# Altium integrated library Seeed-Connector.IntLib: 61 symbols
Pins are listed as number, name and electrical type; pins without a type are passive.

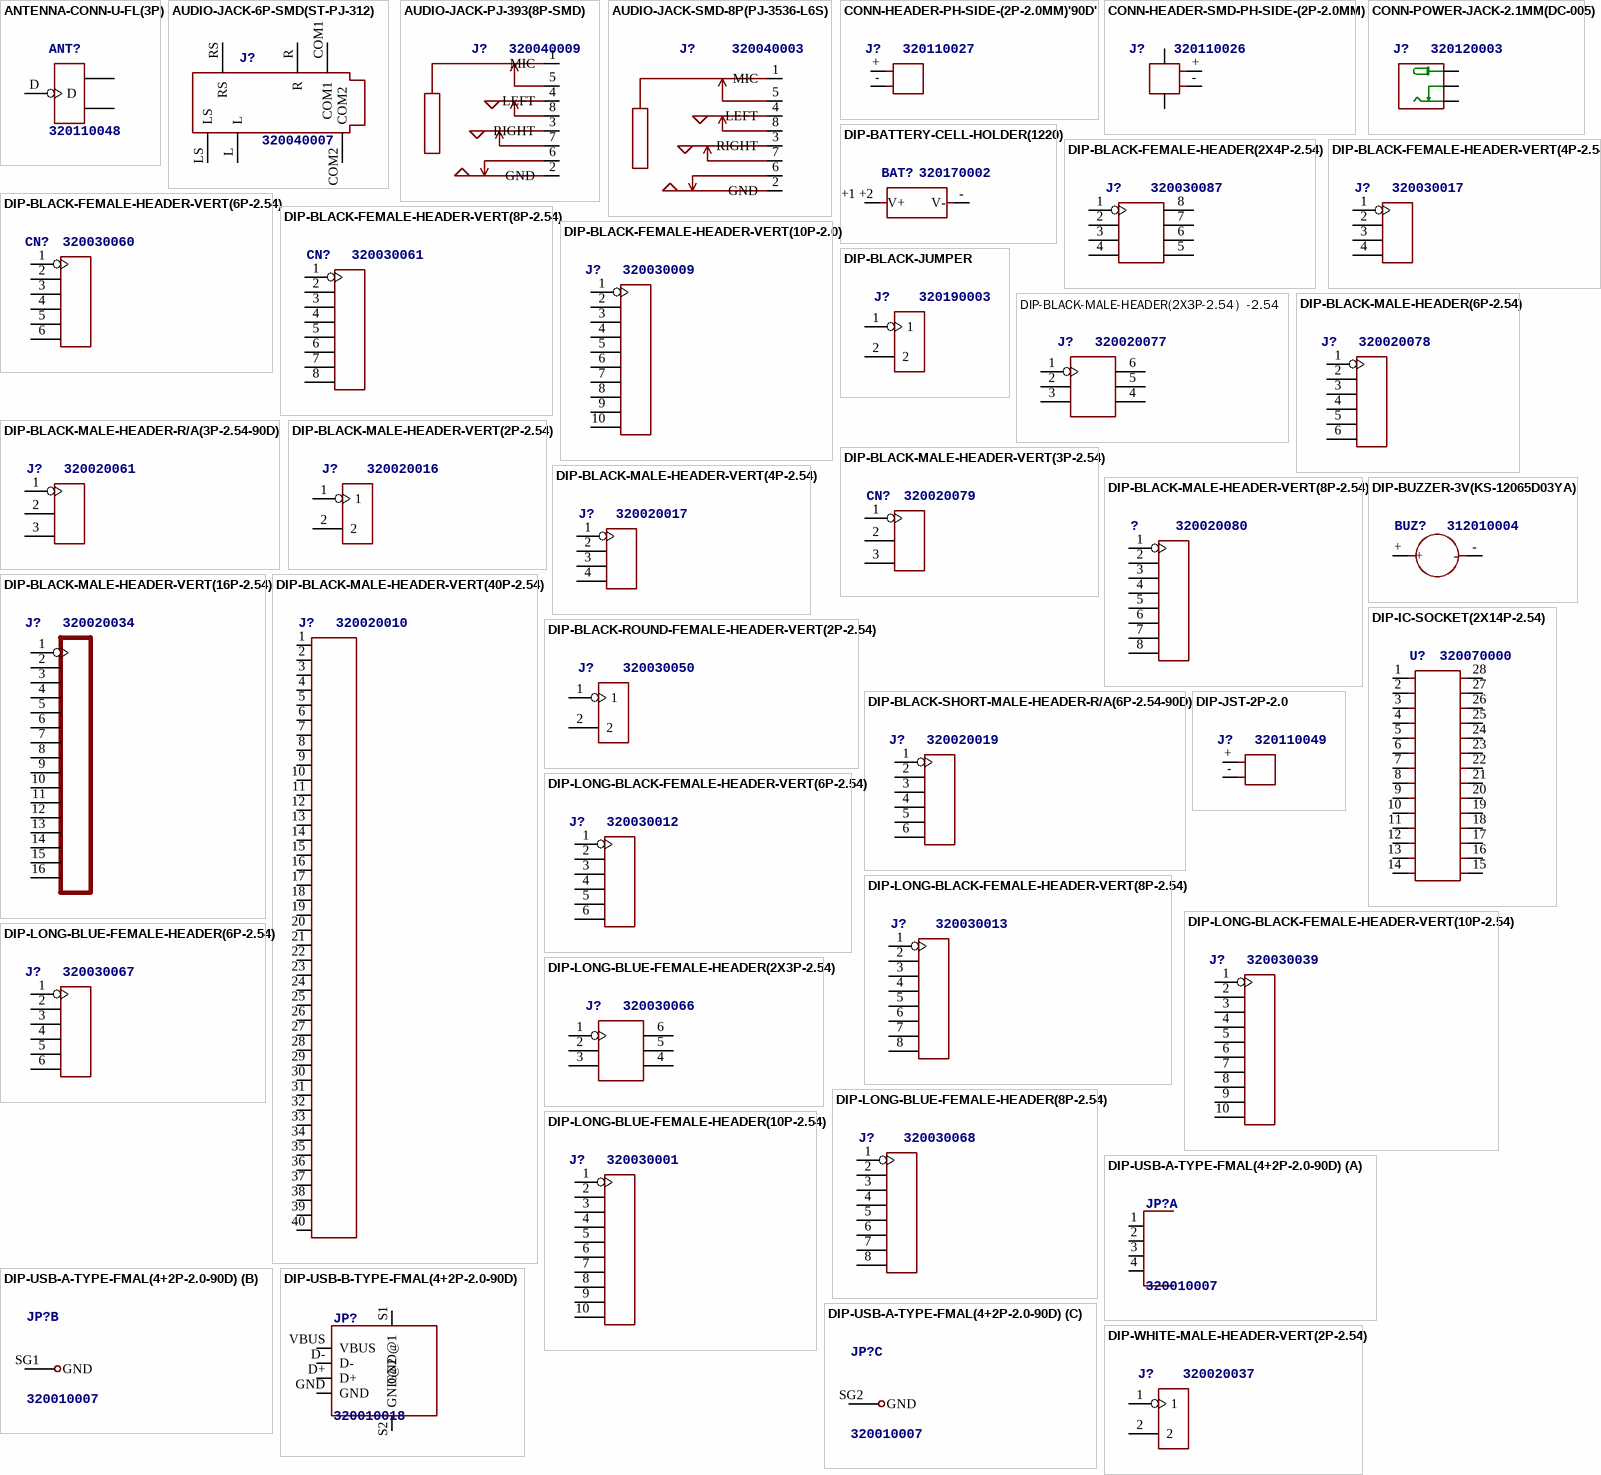
[diagram p0: symbols ANTENNA-CONN-U-FL(3P) to DIP-WHITE-MALE-HEADER-VERT(2P-2.54)]

## ANTENNA-CONN-U-FL(3P)
designator ANT?, comment 320110048
footprint U-FL3P-SMD-2.6X2.6X1.0MM
pins: D, GND1, GND2

## AUDIO-JACK-6P-SMD(ST-PJ-312)
designator J?, comment 320040007
MPN: ST-PJ-312
footprint AUDIO6P-SMD-3.5-14.0X6.4X5.0MM
pins: COM1, COM2, L, LS, R, RS

## AUDIO-JACK-PJ-393(8P-SMD)
designator J?, comment 320040009
MPN: PJ-393
footprint AUDIO8P-SMD-3.5-14.5X6.1X4.0MM
pins: 1 MIC, 2 GND, 3 RIGHT, 4 LEFT, 5, 6, 7, 8

## AUDIO-JACK-SMD-8P(PJ-3536-L6S)
designator J?, comment 320040003
MPN: PJ-3536-L6S
footprint AUDIO8P-SMD-3.5-14.5X6X5MM
pins: 1 MIC, 2 GND, 3 RIGHT, 4 LEFT, 5, 6, 7, 8

## CONN-HEADER-PH-SIDE-(2P-2.0MM)'90D'
designator J?, comment 320110027
footprint H2-2.0-90D
pins: + P$1, - P$2

## CONN-HEADER-SMD-PH-SIDE-(2P-2.0MM)
designator J?, comment 320110026
footprint HW2-SMD-2.0-90D
pins: 3, 4, + 1, - 2

## CONN-POWER-JACK-2.1MM(DC-005)
designator J?, comment 320120003
MPN: DC-005
footprint DCJ3P-14.2X11.0X9.0MM
pins: +, -1 -, -2 CDN

## DIP-BATTERY-CELL-HOLDER(1220)
designator BAT?, comment 320170002
footprint BAT2P-13.5-CR1220
pins: +1 +2 V+, - V-

## DIP-BLACK-FEMALE-HEADER(2X4P-2.54)
designator J?, comment 320030087
footprint H2X4-2.54
pins: 1, 2, 3, 4, 5, 6, 7, 8

## DIP-BLACK-FEMALE-HEADER-VERT(4P-2.54)
designator J?, comment 320030017
MPN: F185-1104A1BSYA1
footprint H4-2.54
pins: 1 P$1, 2 P$2, 3 P$3, 4 P$4

## DIP-BLACK-FEMALE-HEADER-VERT(6P-2.54)
designator CN?, comment 320030060
MPN: F185-1106A1BSYC1
footprint H6-2.54
pins: 1, 2, 3, 4, 5, 6

## DIP-BLACK-FEMALE-HEADER-VERT(8P-2.54)
designator CN?, comment 320030061
MPN: F185-1108A1BSYC1
footprint H8-2.54
pins: 1, 2, 3, 4, 5, 6, 7, 8

## DIP-BLACK-FEMALE-HEADER-VERT(10P-2.0)
designator J?, comment 320030009
MPN: F243-1110A1BSUA1
footprint H10-2.0
pins: 1, 2, 3, 4, 5, 6, 7, 8, 9, 10

## DIP-BLACK-JUMPER
designator J?, comment 320190003
footprint H2-2.54
pins: 1, 2

## DIP-BLACK-MALE-HEADER(2X3P-2.54）-2.54
designator J?, comment 320020077
MPN: P125-12A1BS116A1
footprint H2X3-2.54
pins: 1, 2, 3, 4, 5, 6

## DIP-BLACK-MALE-HEADER(6P-2.54)
designator J?, comment 320020078
MPN: P125-1106A1BS116A1
footprint H6-2.54
pins: 1, 2, 3, 4, 5, 6

## DIP-BLACK-MALE-HEADER-R/A(3P-2.54-90D)
designator J?, comment 320020061
footprint H3-2.54-90D-MALE
pins: 1 P$1, 2 P$2, 3 P$3

## DIP-BLACK-MALE-HEADER-VERT(2P-2.54)
designator J?, comment 320020016
MPN: P125-1102A0BS116A1
footprint H2-2.54
pins: 1, 2

## DIP-BLACK-MALE-HEADER-VERT(3P-2.54)
designator CN?, comment 320020079
footprint H3-2.54
pins: 1 P$1, 2 P$2, 3 P$3

## DIP-BLACK-MALE-HEADER-VERT(4P-2.54)
designator J?, comment 320020017
MPN: P125-1104A0BS116A1
footprint H4-2.54
pins: 1 P$1, 2 P$2, 3 P$3, 4 P$4

## DIP-BLACK-MALE-HEADER-VERT(8P-2.54)
designator ?, comment 320020080
MPN: P125-1108A1BS116A1
footprint H8-2.54
pins: 1, 2, 3, 4, 5, 6, 7, 8

## DIP-BLACK-MALE-HEADER-VERT(16P-2.54)
designator J?, comment 320020034
MPN: P125-1116A0BS116AX
footprint H16-2.54
pins: 1, 2, 3, 4, 5, 6, 7, 8, 9, 10, 11, 12, 13, 14, 15, 16

## DIP-BLACK-MALE-HEADER-VERT(40P-2.54)
designator J?, comment 320020010
footprint H40-2.54
pins: 1 P$1, 2 P$2, 3 P$3, 4 P$4, 5 P$5, 6 P$6, 7 P$7, 8 P$8, 9 P$9, 10 P$10, 11 P$11, 12 P$12, 13 P$13, 14 P$14, 15 P$15, 16 P$16, 17 P$17, 18 P$18, 19 P$19, 20 P$20, 21 P$21, 22 P$22, 23 P$23, 24 P$24, 25 P$25, 26 P$26, 27 P$27, 28 P$28, 29 P$29, 30 P$30, 31 P$31, 32 P$32, 33 P$33, 34 P$34, 35 P$35, 36 P$36, 37 P$37, 38 P$38, 39 P$39, 40 P$40

## DIP-BLACK-ROUND-FEMALE-HEADER-VERT(2P-2.54)
designator J?, comment 320030050
MPN: RF130-1023ABS0741
footprint H2-2.54
pins: 1, 2

## DIP-BLACK-SHORT-MALE-HEADER-R/A(6P-2.54-90D)
designator J?, comment 320020019
footprint H6-2.54-90D-MALE
pins: 1, 2, 3, 4, 5, 6

## DIP-BUZZER-3V(KS-12065D03YA)
designator BUZ?, comment 312010004
MPN: KS-12065D03YA
footprint BZ2-7.6-D12.0XH6.5MM
pins: +, -

## DIP-IC-SOCKET(2X14P-2.54)
designator U?, comment 320070000
MPN: ICX-28P
footprint SCK28-2.54-35.6X10MM
pins: 1, 2, 3, 4, 5, 6, 7, 8, 9, 10, 11, 12, 13, 14, 15, 16, 17, 18, 19, 20, 21, 22, 23, 24, 25, 26, 27, 28

## DIP-JST-2P-2.0
designator J?, comment 320110049
footprint H2-2.0-6X4.5MM
pins: + P$1, - P$2

## DIP-LONG-BLACK-FEMALE-HEADER-VERT(6P-2.54)
designator J?, comment 320030012
MPN: F185-1106A1BSYA2
footprint H6-2.54
pins: 1, 2, 3, 4, 5, 6

## DIP-LONG-BLACK-FEMALE-HEADER-VERT(8P-2.54)
designator J?, comment 320030013
MPN: F185-2108A1BSYA1
footprint H8-2.54
pins: 1, 2, 3, 4, 5, 6, 7, 8

## DIP-LONG-BLACK-FEMALE-HEADER-VERT(10P-2.54)
designator J?, comment 320030039
MPN: F185-1110A1BSYA1
footprint H10-2.54
pins: 1, 2, 3, 4, 5, 6, 7, 8, 9, 10

## DIP-LONG-BLUE-FEMALE-HEADER(2X3P-2.54)
designator J?, comment 320030066
footprint H2X3-2.54
pins: 1, 2, 3, 4, 5, 6

## DIP-LONG-BLUE-FEMALE-HEADER(6P-2.54)
designator J?, comment 320030067
footprint H6-2.54
pins: 1, 2, 3, 4, 5, 6

## DIP-LONG-BLUE-FEMALE-HEADER(8P-2.54)
designator J?, comment 320030068
footprint H8-2.54
pins: 1, 2, 3, 4, 5, 6, 7, 8

## DIP-LONG-BLUE-FEMALE-HEADER(10P-2.54)
designator J?, comment 320030001
footprint H10-2.54
pins: 1, 2, 3, 4, 5, 6, 7, 8, 9, 10

## DIP-USB-A-TYPE-FMAL(4+2P-2.0-90D)
designator JP?, comment 320010007
footprint USB4+2P-2.0-90D
part A pins: 1, 2, 3, 4
part B pins: SG1 GND
part C pins: SG2 GND

## DIP-USB-B-TYPE-FMAL(4+2P-2.0-90D)
designator JP?, comment 320010018
footprint USB4+2-2.5-90D-15.8X12MM
pins: D+, D-, GND, S1 GND@1, S2 GND@2, VBUS

## DIP-WHITE-MALE-HEADER-VERT(2P-2.54)
designator J?, comment 320020037
MPN: P125-1102A0BS116A3
footprint H2-2.54
pins: 1, 2

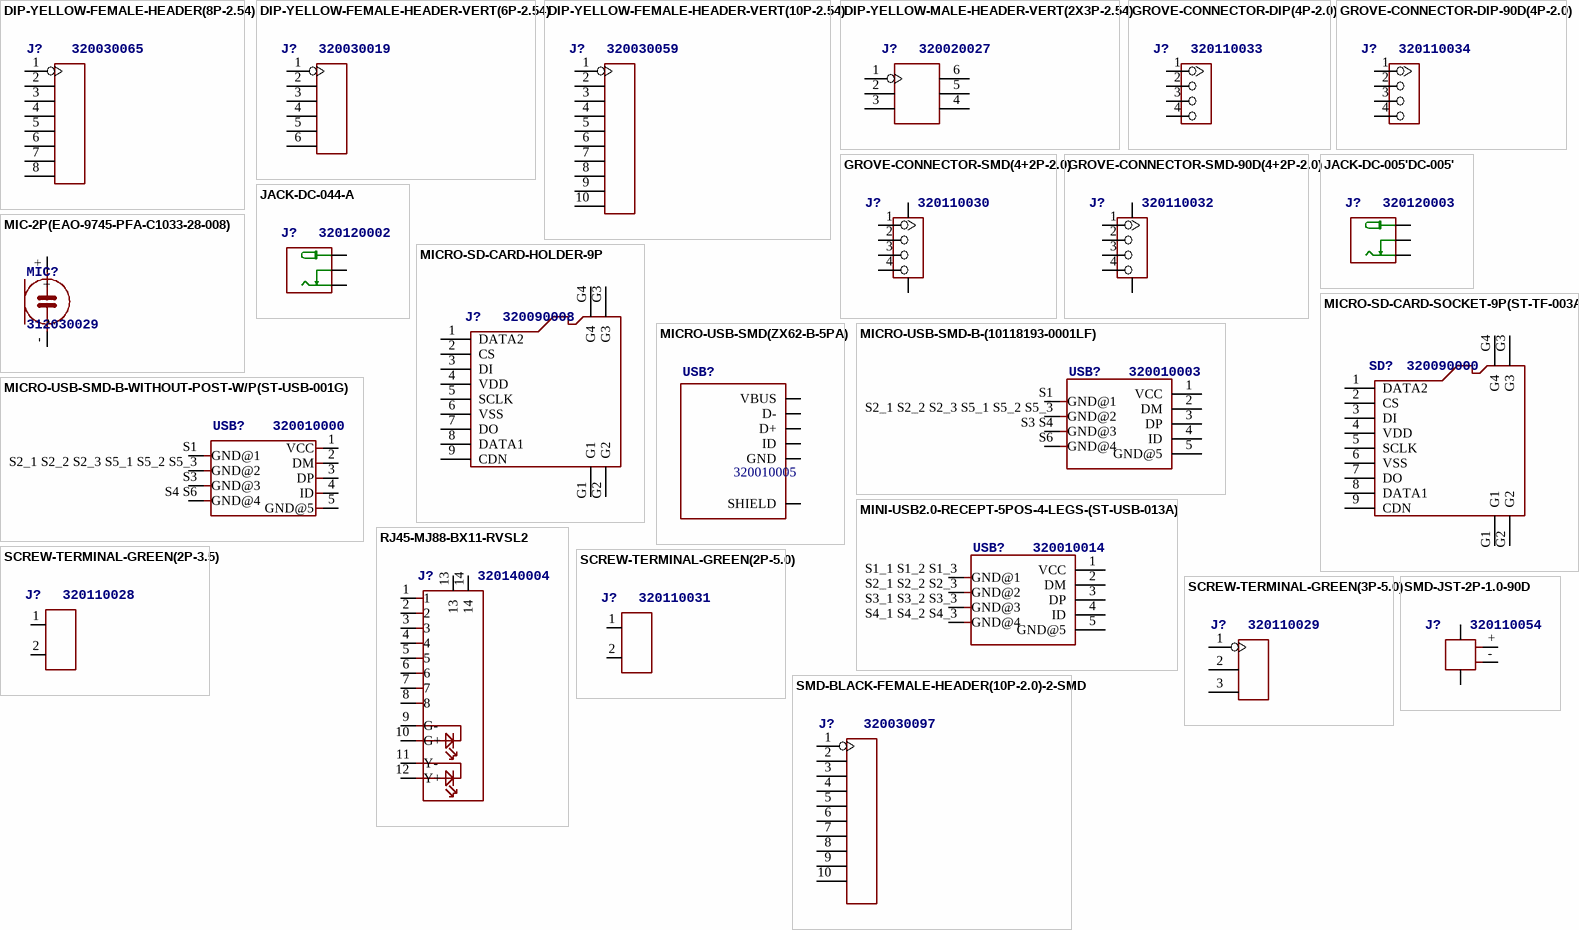
[diagram p1: symbols DIP-YELLOW-FEMALE-HEADER(8P-2.54) to SMD-JST-2P-1.0-90D]

## DIP-YELLOW-FEMALE-HEADER(8P-2.54)
designator J?, comment 320030065
MPN: F185-1108A1BSYC1
footprint H8-2.54
pins: 1, 2, 3, 4, 5, 6, 7, 8

## DIP-YELLOW-FEMALE-HEADER-VERT(6P-2.54)
designator J?, comment 320030019
MPN: F185-1106A1BSYA3
footprint H6-2.54
pins: 1, 2, 3, 4, 5, 6

## DIP-YELLOW-FEMALE-HEADER-VERT(10P-2.54)
designator J?, comment 320030059
MPN: F185-1110A1BSYC1
footprint H10-2.54
pins: 1, 2, 3, 4, 5, 6, 7, 8, 9, 10

## DIP-YELLOW-MALE-HEADER-VERT(2X3P-2.54)
designator J?, comment 320020027
MPN: P125-1203A0BS116A2
footprint H2X3-2.54
pins: 1, 2, 3, 4, 5, 6

## GROVE-CONNECTOR-DIP(4P-2.0)
designator J?, comment 320110033
footprint HW4-2.0
pins: 1, 2, 3, 4

## GROVE-CONNECTOR-DIP-90D(4P-2.0)
designator J?, comment 320110034
footprint HW4-2.0-90D
pins: 1, 2, 3, 4

## GROVE-CONNECTOR-SMD(4+2P-2.0)
designator J?, comment 320110030
footprint HW4-SMD-2.0
pins: 1, 2, 3, 4, SS1, SS2

## GROVE-CONNECTOR-SMD-90D(4+2P-2.0)
designator J?, comment 320110032
footprint HW4-SMD-2.0-90D
pins: 1, 2, 3, 4, SS1, SS2

## JACK-DC-005'DC-005'
designator J?, comment 320120003
footprint 3P-L14.2*W11.0*H9.0MM
pins: +, -1 -, -2 CDN

## JACK-DC-044-A
designator J?, comment 320120002
MPN: JACK-DC-044-A
footprint DCJ3P-11.6X9.6X7.0MM
pins: +, -, CDN

## MIC-2P(EAO-9745-PFA-C1033-28-008)
designator MIC?, comment 312030029
MPN: EAO-9745-PFA-C1033-28-008
footprint MIC2-D9.7XH4.5MM
pins: +, -

## MICRO-SD-CARD-HOLDER-9P
designator J?, comment 320090008
footprint MICRO-SD9+4P-SMD-16.1X14.5X1.85MM
pins: 1 DATA2, 2 CS, 3 DI, 4 VDD, 5 SCLK, 6 VSS, 7 DO, 8 DATA1, 9 CDN, G1, G2, G3, G4

## MICRO-SD-CARD-SOCKET-9P(ST-TF-003A)
designator SD?, comment 320090000
MPN: ST-TF-003A
footprint MICRO-SD9+4P-SMD-16.1X14.5X1.85MM
pins: 1 DATA2, 2 CS, 3 DI, 4 VDD, 5 SCLK, 6 VSS, 7 DO, 8 DATA1, 9 CDN, G1, G2, G3, G4

## MICRO-USB-SMD(ZX62-B-5PA)
designator USB?, comment 320010005
MPN: ZX62-B-5PA
footprint MICRO-USB5+6P-SMD-0.65-AB
pins: 1 VBUS (oe), 2 D-, 3 D+, 4 ID, 5 GND (oe), P1 P2 P3_1 P3_2 P3_3 P4_1 P4_2 P4_3 P5 P6 SHIELD (oe)

## MICRO-USB-SMD-B-(10118193-0001LF)
designator USB?, comment 320010003
MPN: 10118193-0001LF
footprint MICRO-USB5+6P-SMD-0.65-B
pins: 1 VCC, 2 DM, 3 DP, 4 ID, 5 GND@5, S1 GND@1, S2_1 S2_2 S2_3 S5_1 S5_2 S5_3 GND@2, S3 S4 GND@3, S6 GND@4

## MICRO-USB-SMD-B-WITHOUT-POST-W/P(ST-USB-001G)
designator USB?, comment 320010000
MPN: ST-USB-001G
footprint MICRO-USB5+4P-SMD-0.65-B
pins: 1 VCC, 2 DM, 3 DP, 4 ID, 5 GND@5, S1 GND@1, S2_1 S2_2 S2_3 S5_1 S5_2 S5_3 GND@2, S3 GND@3, S4 S6 GND@4

## MINI-USB2.0-RECEPT-5POS-4-LEGS-(ST-USB-013A)
designator USB?, comment 320010014
MPN: ST-USB-013A
footprint MINIUSB5+4P-0.8-90D
pins: 1 VCC, 2 DM, 3 DP, 4 ID, 5 GND@5, S1_1 S1_2 S1_3 GND@1, S2_1 S2_2 S2_3 GND@2, S3_1 S3_2 S3_3 GND@3, S4_1 S4_2 S4_3 GND@4

## RJ45-MJ88-BX11-RVSL2
designator J?, comment 320140004
MPN: MJ88-BX11-RVSL2
footprint RJ45-12+2P-16.3X15.4X11.5MM-IN
pins: 1, 2, 3, 4, 5, 6, 7, 8, 9 G-, 10 G+, 11 Y-, 12 Y+, 13, 14

## SCREW-TERMINAL-GREEN(2P-3.5)
designator J?, comment 320110028
footprint H2-3.5-7.0X7.0MM
pins: 1, 2

## SCREW-TERMINAL-GREEN(2P-5.0)
designator J?, comment 320110031
footprint H2-5.0-10.5X8.0MM
pins: 1, 2

## SCREW-TERMINAL-GREEN(3P-5.0)
designator J?, comment 320110029
footprint H3-5.0-15.5X8.0MM
pins: 1 P$1, 2 P$2, 3 P$3

## SMD-BLACK-FEMALE-HEADER(10P-2.0)-2-SMD
designator J?, comment 320030097
footprint HW10-2.0
pins: 1, 2, 3, 4, 5, 6, 7, 8, 9, 10

## SMD-JST-2P-1.0-90D
designator J?, comment 320110054
footprint HW2-SMD-1.0-90D
pins: 3, 4, + 1, - 2